# Altium footprint library Pin Header.PcbLib: 1 footprints
Each footprint in its own frame and in the unit in brackets; x right, y up, seen from the top. Pads: shape width x height; smd on the part's side, far side on the other; paste and mask are expansions set on the pad; w line width, h text height; cw(c..) or ccw(c..) is an arc to the next point about the centre after c.
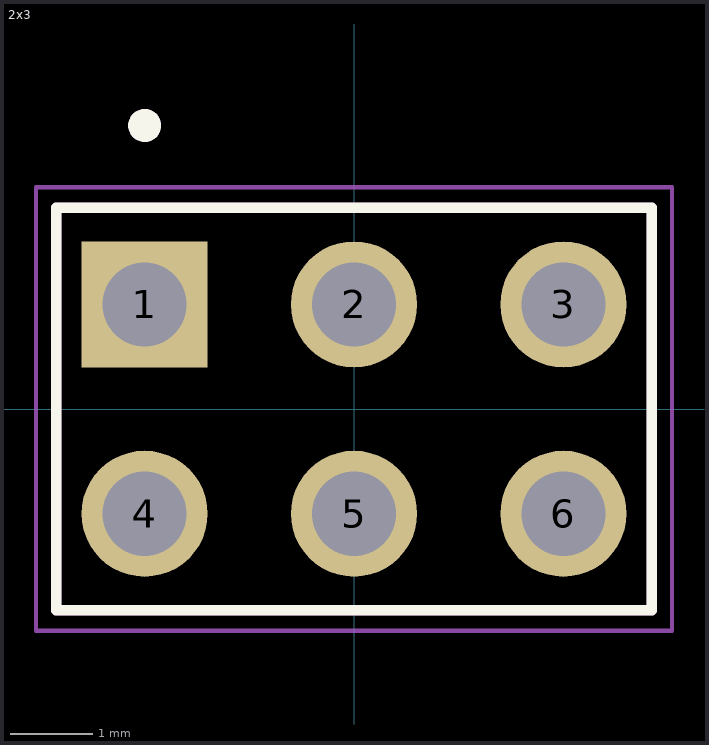
[diagram p0: the footprint, top view; thin cyan lines are the x and y axes]

## 2x3 [mm]
pads (6):
  rect 1.53x1.53 hole 1.02: 1(-2.54,1.27)
  round 1.53 hole 1.02: 2(0,1.27) 3(2.54,1.27) 4(-2.54,-1.27) 5(0,-1.27) 6(2.54,-1.27)
Top Overlay:
  circle w0.2: c-2.54,3.44 r0.1
  lines w0.127: -3.61,-2.44 3.61,-2.44 3.61,2.44 -3.61,2.44 -3.61,-2.44
Mechanical 13:
  circle w0.2: c-2.54,3.44 r0.1
  lines w0.127: -3.61,-2.44 3.61,-2.44 3.61,2.44 -3.61,2.44 -3.61,-2.44
Mechanical 15:
  lines w0.05: -3.86,-2.69 3.86,-2.69 3.86,2.69 -3.86,2.69 -3.86,-2.69
3D body "1x3 TH Vert 100mil.step": height 8.38, standoff -3.3, extent -3.81,0 3.81,2.54
3D body "1x3 TH Vert 100mil.step": height 8.38, standoff -3.3, extent -3.81,-2.54 3.81,0